# Altium schematic symbol library 4xxx.SchLib: 48 symbols
Pins are listed as number, name and electrical type; pins without a type are passive.

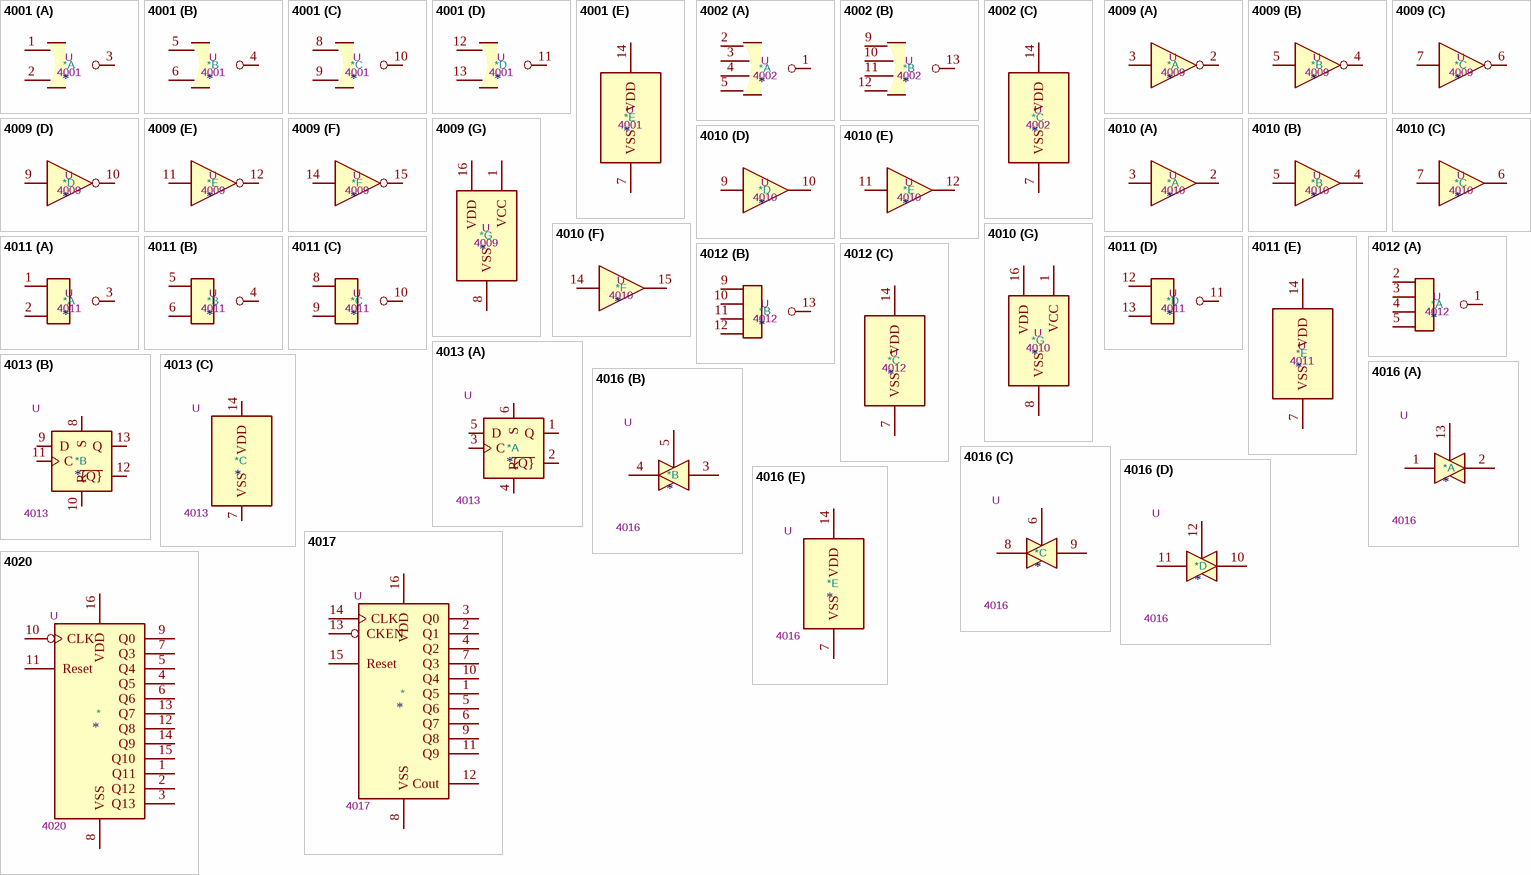
[diagram p0: symbols 4001 to 4020]

## 4001
designator *  value 4001  Reference: U
ki_keywords: CMOS Nor2; ki_description: Quad Nor 2 inputs; ki_fp_filters: DIP?14*; Datasheet: http://www.intersil.com/content/dam/Intersil/documents/cd40/cd4000bms-01bms-02bms-25bms.pdf
part A pins: 1, 2, 3
part B pins: 4, 5, 6
part C pins: 8, 9, 10
part D pins: 11, 12, 13
part E pins: 7 VSS, 14 VDD
1 alternate drawing of the same symbol

## 4002
designator *  value 4002  Reference: U
ki_keywords: CMOS Nor4; ki_description: Dual  4 input NOR gate; ki_fp_filters: DIP?14*; Datasheet: http://www.intersil.com/content/dam/Intersil/documents/cd40/cd4000bms-01bms-02bms-25bms.pdf
part A pins: 1, 2, 3, 4, 5
part B pins: 9, 10, 11, 12, 13
part C pins: 7 VSS, 14 VDD
1 alternate drawing of the same symbol

## 4009
designator *  value 4009  Reference: U
ki_keywords: CMOS INV BUFFER high sink, VCC and VDD sep. VDD>VI>VCC!; ki_description: Hex Buffer Inverter; ki_fp_filters: DIP?16*; Datasheet: http://www.sycelectronica.com.ar/semiconductores/CD4009.pdf
part A pins: 2, 3
part B pins: 4, 5
part C pins: 6, 7
part D pins: 9, 10
part E pins: 11, 12
part F pins: 14, 15
part G pins: 1 VCC, 8 VSS, 16 VDD

## 4010
designator *  value 4010  Reference: U
ki_keywords: CMOS BUFFER high sink, VCC and VDD sep. VDD>VI>VCC!; ki_description: Hex Buffer; ki_fp_filters: DIP?16*; Datasheet: http://www.ti.com/lit/ds/symlink/cd4010b-q1.pdf
part A pins: 2, 3
part B pins: 4, 5
part C pins: 6, 7
part D pins: 9, 10
part E pins: 11, 12
part F pins: 14, 15
part G pins: 1 VCC, 8 VSS, 16 VDD

## 4011
designator *  value 4011  Reference: U
ki_keywords: CMOS Nand2; ki_description: Quad Nand 2 inputs; ki_fp_filters: DIP?14*; Datasheet: http://www.intersil.com/content/dam/Intersil/documents/cd40/cd4011bms-12bms-23bms.pdf
part A pins: 1, 2, 3
part B pins: 4, 5, 6
part C pins: 8, 9, 10
part D pins: 11, 12, 13
part E pins: 7 VSS, 14 VDD
1 alternate drawing of the same symbol

## 4012
designator *  value 4012  Reference: U
ki_keywords: CMOS Nand4; ki_description: Dual 4 inputs Nand; ki_fp_filters: DIP?14*; Datasheet: http://www.intersil.com/content/dam/Intersil/documents/cd40/cd4011bms-12bms-23bms.pdf
part A pins: 1, 2, 3, 4, 5
part B pins: 9, 10, 11, 12, 13
part C pins: 7 VSS, 14 VDD
1 alternate drawing of the same symbol

## 4013
designator *  value 4013  Reference: U
ki_keywords: CMOS DFF; ki_description: Dual D  FlipFlop, Set & reset; ki_fp_filters: DIP*W7.62mm* SOIC*3.9x9.9mm*P1.27mm* TSSOP*4.4x5mm*P0.65mm*; Datasheet: http://www.onsemi.com/pub/Collateral/MC14013B-D.PDF
part A pins: 1 Q, 2 ~{{Q}}, 3 C, 4 R, 5 D, 6 S
part B pins: 8 S, 9 D, 10 R, 11 C, 12 ~{{Q}}, 13 Q
part C pins: 7 VSS, 14 VDD

## 4016
designator *  value 4016  Reference: U
ki_keywords: CMOS SWITCH; ki_description: Quad Analog Switches; ki_fp_filters: DIP?14*; Datasheet: http://www.ti.com/lit/ds/symlink/cd4016b.pdf
part A pins: 1, 2, 13
part B pins: 3, 4, 5
part C pins: 6, 8, 9
part D pins: 10, 11, 12
part E pins: 7 VSS, 14 VDD

## 4017
designator *  value 4017  Reference: U
ki_keywords: CNT CNT10; ki_description: Johnson Counter ( 10 outputs ); ki_fp_filters: DIP?16*; Datasheet: http://www.intersil.com/content/dam/Intersil/documents/cd40/cd4017bms-22bms.pdf
pins: 1 Q5, 2 Q1, 3 Q0, 4 Q2, 5 Q6, 6 Q7, 7 Q3, 8 VSS, 9 Q8, 10 Q4, 11 Q9, 12 Cout, 13 CKEN, 14 CLK, 15 Reset, 16 VDD

## 4020
designator *  value 4020  Reference: U
ki_keywords: CMOS CNT CNT14; ki_description: Binary counter 14 stages (asynchronous); ki_fp_filters: DIP?16*; Datasheet: http://www.intersil.com/content/dam/Intersil/documents/cd40/cd4020bms-24bms-40bms.pdf
pins: 1 Q11, 2 Q12, 3 Q13, 4 Q5, 5 Q4, 6 Q6, 7 Q3, 8 VSS, 9 Q0, 10 CLK, 11 Reset, 12 Q8, 13 Q7, 14 Q9, 15 Q10, 16 VDD

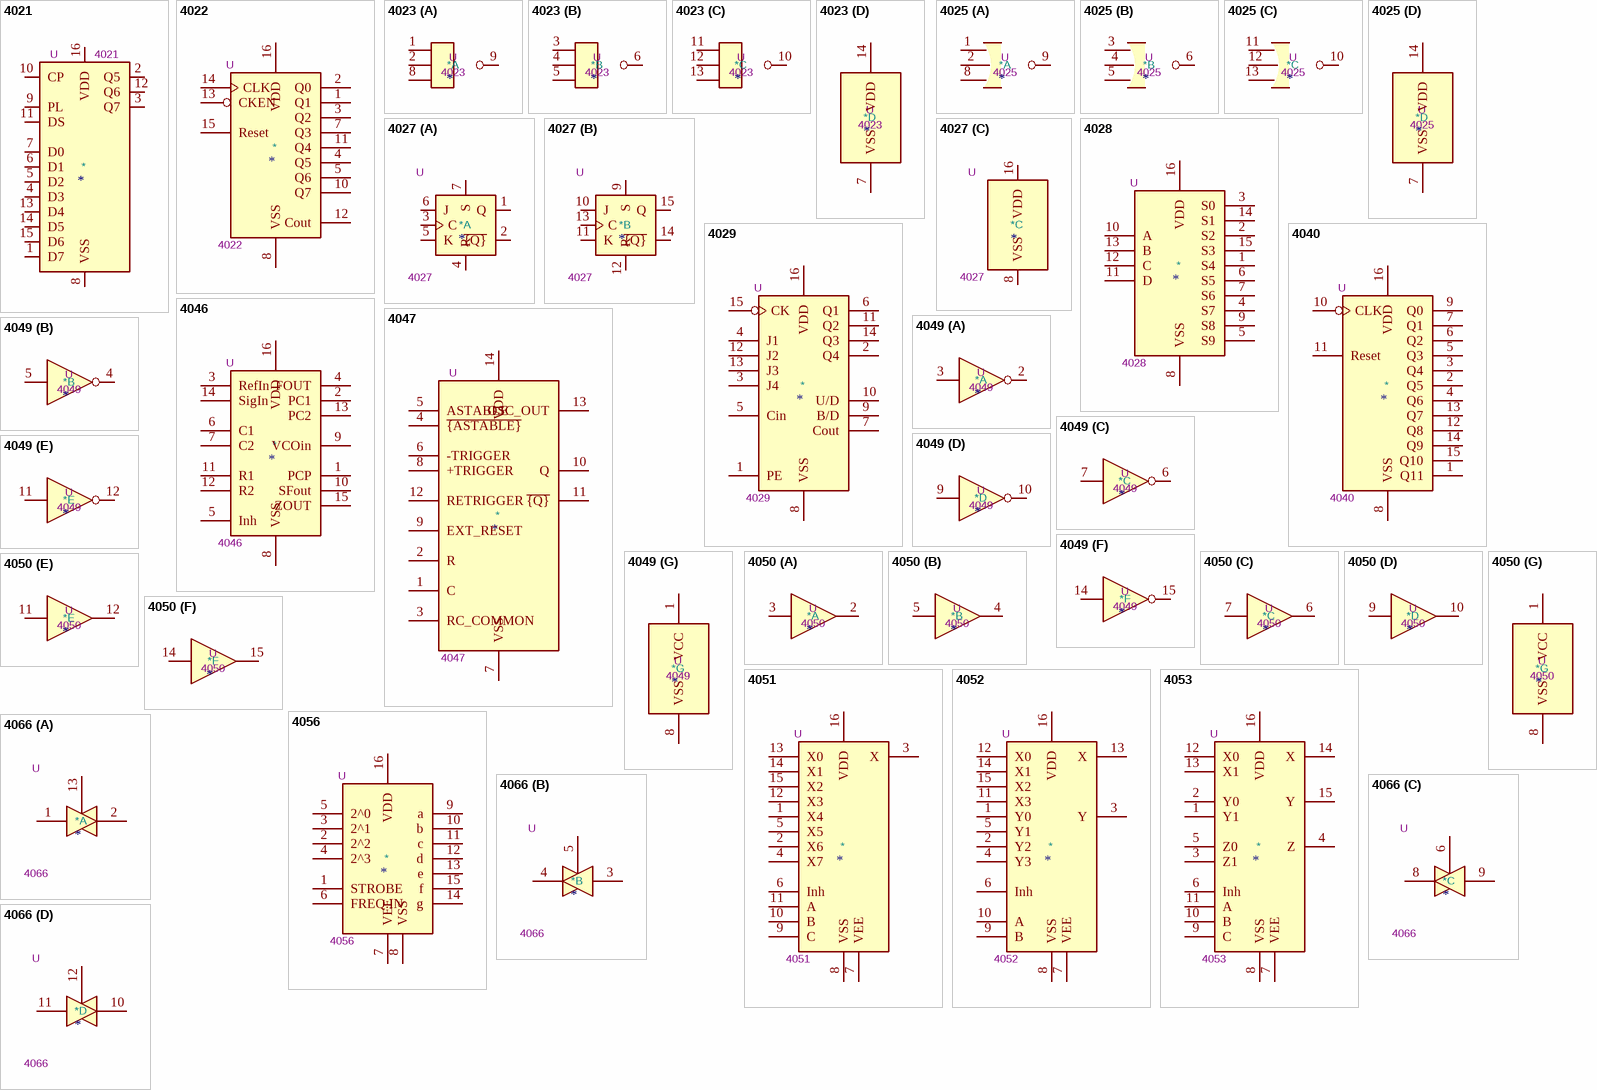
[diagram p1: symbols 4021 to 4066]

## 4021
designator *  value 4021  Reference: U
ki_keywords: shift register SR PISO; ki_description: 8-bit static shift register; ki_fp_filters: DIP*W7.62mm* SOIC*3.9x9.9mm*P1.27mm* TSSOP*4.4x5mm*P0.65mm* SOIC*5.3x10.2mm*P1.27mm*; Datasheet: https://assets.nexperia.com/documents/data-sheet/HEF4021B.pdf
pins: 1 D7, 2 Q5, 3 Q7, 4 D3, 5 D2, 6 D1, 7 D0, 8 VSS, 9 PL, 10 CP, 11 DS, 12 Q6, 13 D4, 14 D5, 15 D6, 16 VDD

## 4022
designator *  value 4022  Reference: U
ki_keywords: CMOS CNT CNT8; ki_description: Johnson Counter (8 states); ki_fp_filters: DIP?16*; Datasheet: http://www.intersil.com/content/dam/Intersil/documents/cd40/cd4017bms-22bms.pdf
pins: 1 Q1, 2 Q0, 3 Q2, 4 Q5, 5 Q6, 7 Q3, 8 VSS, 10 Q7, 11 Q4, 12 Cout, 13 CKEN, 14 CLK, 15 Reset, 16 VDD

## 4023
designator *  value 4023  Reference: U
ki_keywords: CMOS Nand3; ki_description: Triple Nand 3 inputs; ki_fp_filters: DIP?14*; Datasheet: http://www.intersil.com/content/dam/Intersil/documents/cd40/cd4011bms-12bms-23bms.pdf
part A pins: 1, 2, 8, 9
part B pins: 3, 4, 5, 6
part C pins: 10, 11, 12, 13
part D pins: 7 VSS, 14 VDD
1 alternate drawing of the same symbol

## 4025
designator *  value 4025  Reference: U
ki_keywords: CMOS Nor3; ki_description: Triple Nor 3 inputs; ki_fp_filters: DIP?14*; Datasheet: http://www.intersil.com/content/dam/Intersil/documents/cd40/cd4000bms-01bms-02bms-25bms.pdf
part A pins: 1, 2, 8, 9
part B pins: 3, 4, 5, 6
part C pins: 10, 11, 12, 13
part D pins: 7 VSS, 14 VDD
1 alternate drawing of the same symbol

## 4027
designator *  value 4027  Reference: U
ki_keywords: CMOS JK JKFF; ki_description: Dual JK FlipFlop, set & reset; ki_fp_filters: DIP*W7.62mm* SOIC*3.9x9.9mm*P1.27mm* TSSOP*4.4x5mm*P0.65mm*; Datasheet: http://www.intersil.com/content/dam/Intersil/documents/cd40/cd4027bms.pdf
part A pins: 1 Q, 2 ~{{Q}}, 3 C, 4 R, 5 K, 6 J, 7 S
part B pins: 9 S, 10 J, 11 K, 12 R, 13 C, 14 ~{{Q}}, 15 Q
part C pins: 8 VSS, 16 VDD

## 4028
designator *  value 4028  Reference: U
ki_keywords: CMOS DECOD DECOD10; ki_description: Decoder 4 to 10 lines; ki_fp_filters: DIP?16*; Datasheet: http://www.intersil.com/content/dam/Intersil/documents/cd40/cd4028bms.pdf
pins: 1 S4, 2 S2, 3 S0, 4 S7, 5 S9, 6 S5, 7 S6, 8 VSS, 9 S8, 10 A, 11 D, 12 C, 13 B, 14 S1, 15 S3, 16 VDD

## 4029
designator *  value 4029  Reference: U
ki_keywords: CMOS COUNTER; ki_description: Up/Down Counter; ki_fp_filters: DIP?16*; Datasheet: http://www.intersil.com/content/dam/Intersil/documents/cd40/cd4029bms.pdf
pins: 1 PE, 2 Q4, 3 J4, 4 J1, 5 Cin, 6 Q1, 7 Cout, 8 VSS, 9 B/D, 10 U/D, 11 Q2, 12 J2, 13 J3, 14 Q3, 15 CK, 16 VDD

## 4040
designator *  value 4040  Reference: U
ki_keywords: CMOS CNT CNT12; ki_description: Binary Counter 12 stages (Asynchronous); ki_fp_filters: DIP?16*; Datasheet: http://www.intersil.com/content/dam/Intersil/documents/cd40/cd4020bms-24bms-40bms.pdf
pins: 1 Q11, 2 Q5, 3 Q4, 4 Q6, 5 Q3, 6 Q2, 7 Q1, 8 VSS, 9 Q0, 10 CLK, 11 Reset, 12 Q8, 13 Q7, 14 Q9, 15 Q10, 16 VDD

## 4046
designator *  value 4046  Reference: U
ki_keywords: CMOS PLL; ki_description: Phase Comp & VCO; ki_fp_filters: DIP?16*; Datasheet: https://assets.nexperia.com/documents/data-sheet/HEF4046B.pdf
pins: 1 PCP, 2 PC1, 3 RefIn, 4 FOUT, 5 Inh, 6 C1, 7 C2, 8 VSS, 9 VCOin, 10 SFout, 11 R1, 12 R2, 13 PC2, 14 SigIn, 15 ZOUT, 16 VDD

## 4047
designator *  value 4047  Reference: U
ki_keywords: CMOS monostable astable multivibrator; ki_description: Monostable/Astable Multivibrator; ki_fp_filters: DIP*W7.62mm* SOIC*3.9x8.7mm*P1.27mm*; Datasheet: https://www.ti.com/lit/ds/symlink/cd4047b.pdf
pins: 1 C, 2 R, 3 RC_COMMON, 4 ~{{ASTABLE}}, 5 ASTABLE, 6 -TRIGGER, 7 VSS, 8 +TRIGGER, 9 EXT_RESET, 10 Q, 11 ~{{Q}}, 12 RETRIGGER, 13 OSC_OUT, 14 VDD

## 4049
designator *  value 4049  Reference: U
ki_keywords: CMOS BUFFER; ki_description: Hex Buffer Inverter; ki_fp_filters: DIP?16*; Datasheet: http://www.intersil.com/content/dam/intersil/documents/cd40/cd4049ubms.pdf
part A pins: 2, 3
part B pins: 4, 5
part C pins: 6, 7
part D pins: 9, 10
part E pins: 11, 12
part F pins: 14, 15
part G pins: 1 VCC, 8 VSS

## 4050
designator *  value 4050  Reference: U
ki_keywords: CMOS BUFFER; ki_description: Hex Buffer; ki_fp_filters: DIP?16*; Datasheet: http://www.intersil.com/content/dam/intersil/documents/cd40/cd4050bms.pdf
part A pins: 2, 3
part B pins: 4, 5
part C pins: 6, 7
part D pins: 9, 10
part E pins: 11, 12
part F pins: 14, 15
part G pins: 1 VCC, 8 VSS

## 4051
designator *  value 4051  Reference: U
ki_keywords: CMOS MUX MUX8; ki_description: Analog Multiplexer 8 to 1 lins; ki_fp_filters: DIP?16*; Datasheet: http://www.intersil.com/content/dam/Intersil/documents/cd40/cd4051bms-52bms-53bms.pdf
pins: 1 X4, 2 X6, 3 X, 4 X7, 5 X5, 6 Inh, 7 VEE, 8 VSS, 9 C, 10 B, 11 A, 12 X3, 13 X0, 14 X1, 15 X2, 16 VDD

## 4052
designator *  value 4052  Reference: U
ki_keywords: CMOS MUX MUX4; ki_description: Dual Analog Multiplexer 4 to 1 line; ki_fp_filters: DIP?16*; Datasheet: http://www.intersil.com/content/dam/Intersil/documents/cd40/cd4051bms-52bms-53bms.pdf
pins: 1 Y0, 2 Y2, 3 Y, 4 Y3, 5 Y1, 6 Inh, 7 VEE, 8 VSS, 9 B, 10 A, 11 X3, 12 X0, 13 X, 14 X1, 15 X2, 16 VDD

## 4053
designator *  value 4053  Reference: U
ki_keywords: CMOS MUX MUX2; ki_description: Triple analog Multiplexer 2 to 1 line; ki_fp_filters: DIP?16*; Datasheet: http://www.intersil.com/content/dam/Intersil/documents/cd40/cd4051bms-52bms-53bms.pdf
pins: 1 Y1, 2 Y0, 3 Z1, 4 Z, 5 Z0, 6 Inh, 7 VEE, 8 VSS, 9 C, 10 B, 11 A, 12 X0, 13 X1, 14 X, 15 Y, 16 VDD

## 4056
designator *  value 4056  Reference: U
ki_keywords: CMOS LCD 7-segment decoder driver; ki_description: BCD to 7-Segment Decoder/Driver, Strobed-Latch Function; ki_fp_filters: DIP*W7.62mm* SOIC*3.9x9.9mm*P1.27mm* TSSOP*4.4x5mm*P0.65mm*; Datasheet: http://www.ti.com/lit/ds/symlink/cd4056b.pdf
pins: 1 STROBE, 2 2^2, 3 2^1, 4 2^3, 5 2^0, 6 FREQ.IN, 7 VEE, 8 VSS, 9 a, 10 b, 11 c, 12 d, 13 e, 14 g, 15 f, 16 VDD

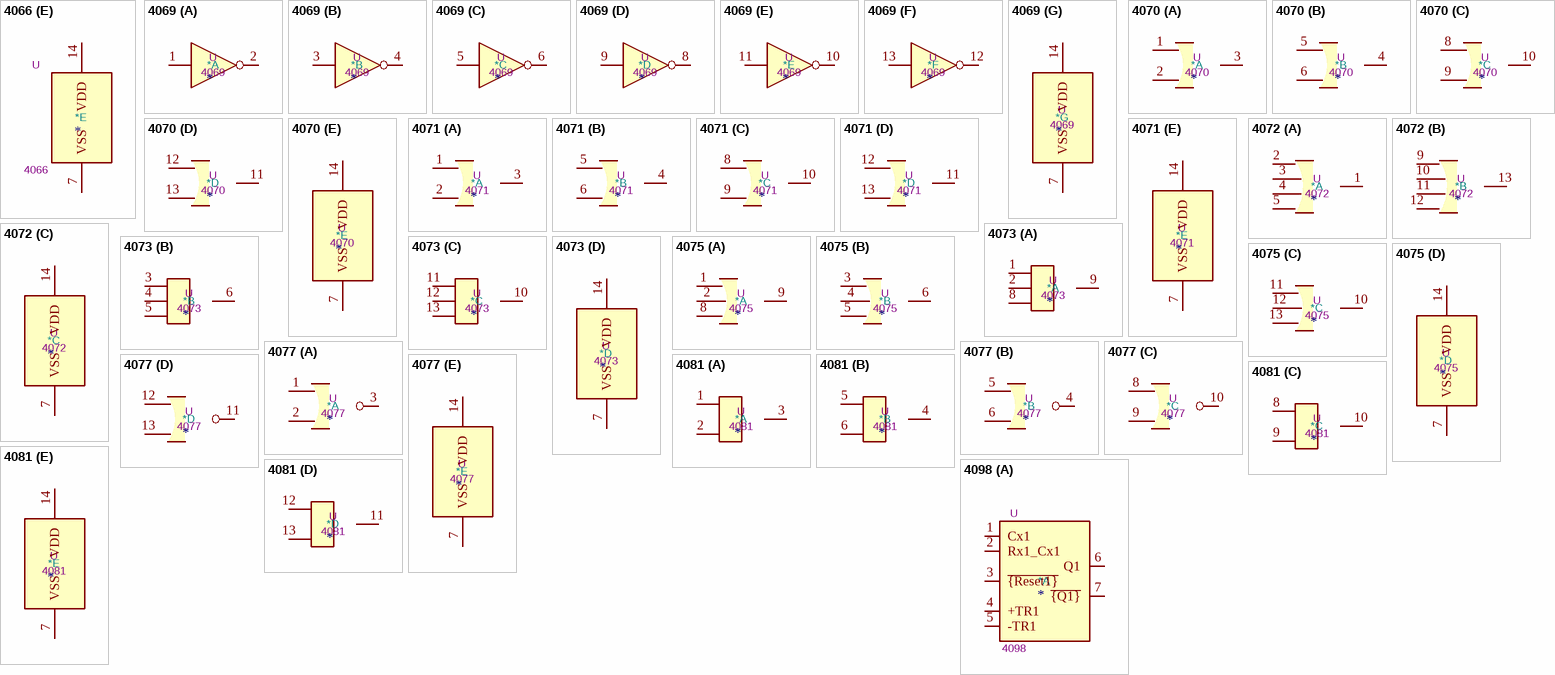
[diagram p2: symbols 4066 to 4098]

## 4066
designator *  value 4066  Reference: U
ki_keywords: CMOS SWITCH; ki_description: Quad Analog Switches; ki_fp_filters: DIP?14*; Datasheet: http://www.ti.com/lit/ds/symlink/cd4066b.pdf
part A pins: 1, 2, 13
part B pins: 3, 4, 5
part C pins: 6, 8, 9
part D pins: 10, 11, 12
part E pins: 7 VSS, 14 VDD

## 4069
designator *  value 4069  Reference: U
ki_keywords: CMOS NOT; ki_description: Hex inverter; ki_fp_filters: DIP?14*; Datasheet: http://www.intersil.com/content/dam/Intersil/documents/cd40/cd4069ubms.pdf
part A pins: 1, 2
part B pins: 3, 4
part C pins: 5, 6
part D pins: 8, 9
part E pins: 10, 11
part F pins: 12, 13
part G pins: 7 VSS, 14 VDD

## 4070
designator *  value 4070  Reference: U
ki_keywords: CMOS XOR2; ki_description: Quad Xor 2 inputs; ki_fp_filters: DIP?14*; Datasheet: http://www.intersil.com/content/dam/Intersil/documents/cd40/cd4070bms-77bms.pdf
part A pins: 1, 2, 3
part B pins: 4, 5, 6
part C pins: 8, 9, 10
part D pins: 11, 12, 13
part E pins: 7 VSS, 14 VDD

## 4071
designator *  value 4071  Reference: U
ki_keywords: CMOS OR2; ki_description: Quad Or 2 inputs; ki_fp_filters: DIP?14*; Datasheet: http://www.intersil.com/content/dam/Intersil/documents/cd40/cd4071bms-72bms-75bms.pdf
part A pins: 1, 2, 3
part B pins: 4, 5, 6
part C pins: 8, 9, 10
part D pins: 11, 12, 13
part E pins: 7 VSS, 14 VDD
1 alternate drawing of the same symbol

## 4072
designator *  value 4072  Reference: U
ki_keywords: CMOS OR4; ki_description: Dual 4 input OR gate; ki_fp_filters: DIP?14*; Datasheet: http://www.intersil.com/content/dam/Intersil/documents/cd40/cd4071bms-72bms-75bms.pdf
part A pins: 1, 2, 3, 4, 5
part B pins: 9, 10, 11, 12, 13
part C pins: 7 VSS, 14 VDD
1 alternate drawing of the same symbol

## 4073
designator *  value 4073  Reference: U
ki_keywords: CMOS And3; ki_description: Triple And 3 inputs; ki_fp_filters: DIP?14*; Datasheet: http://www.intersil.com/content/dam/Intersil/documents/cd40/cd4073bms-81bms-82bms.pdf
part A pins: 1, 2, 8, 9
part B pins: 3, 4, 5, 6
part C pins: 10, 11, 12, 13
part D pins: 7 VSS, 14 VDD
1 alternate drawing of the same symbol

## 4075
designator *  value 4075  Reference: U
ki_keywords: CMOS Or3; ki_description: Triple Or 3 inputs; ki_fp_filters: DIP?14*; Datasheet: http://www.intersil.com/content/dam/Intersil/documents/cd40/cd4071bms-72bms-75bms.pdf
part A pins: 1, 2, 8, 9
part B pins: 3, 4, 5, 6
part C pins: 10, 11, 12, 13
part D pins: 7 VSS, 14 VDD
1 alternate drawing of the same symbol

## 4077
designator *  value 4077  Reference: U
ki_keywords: CMOS XOR XNOR XNOR2; ki_description: Quad Xnor 2 inputs; ki_fp_filters: DIP?14*; Datasheet: http://www.intersil.com/content/dam/Intersil/documents/cd40/cd4076bms.pdf
part A pins: 1, 2, 3
part B pins: 4, 5, 6
part C pins: 8, 9, 10
part D pins: 11, 12, 13
part E pins: 7 VSS, 14 VDD

## 4081
designator *  value 4081  Reference: U
ki_keywords: CMOS And2; ki_description: Quad And 2 inputs; ki_fp_filters: DIP?14*; Datasheet: http://www.intersil.com/content/dam/Intersil/documents/cd40/cd4073bms-81bms-82bms.pdf
part A pins: 1, 2, 3
part B pins: 4, 5, 6
part C pins: 8, 9, 10
part D pins: 11, 12, 13
part E pins: 7 VSS, 14 VDD
1 alternate drawing of the same symbol

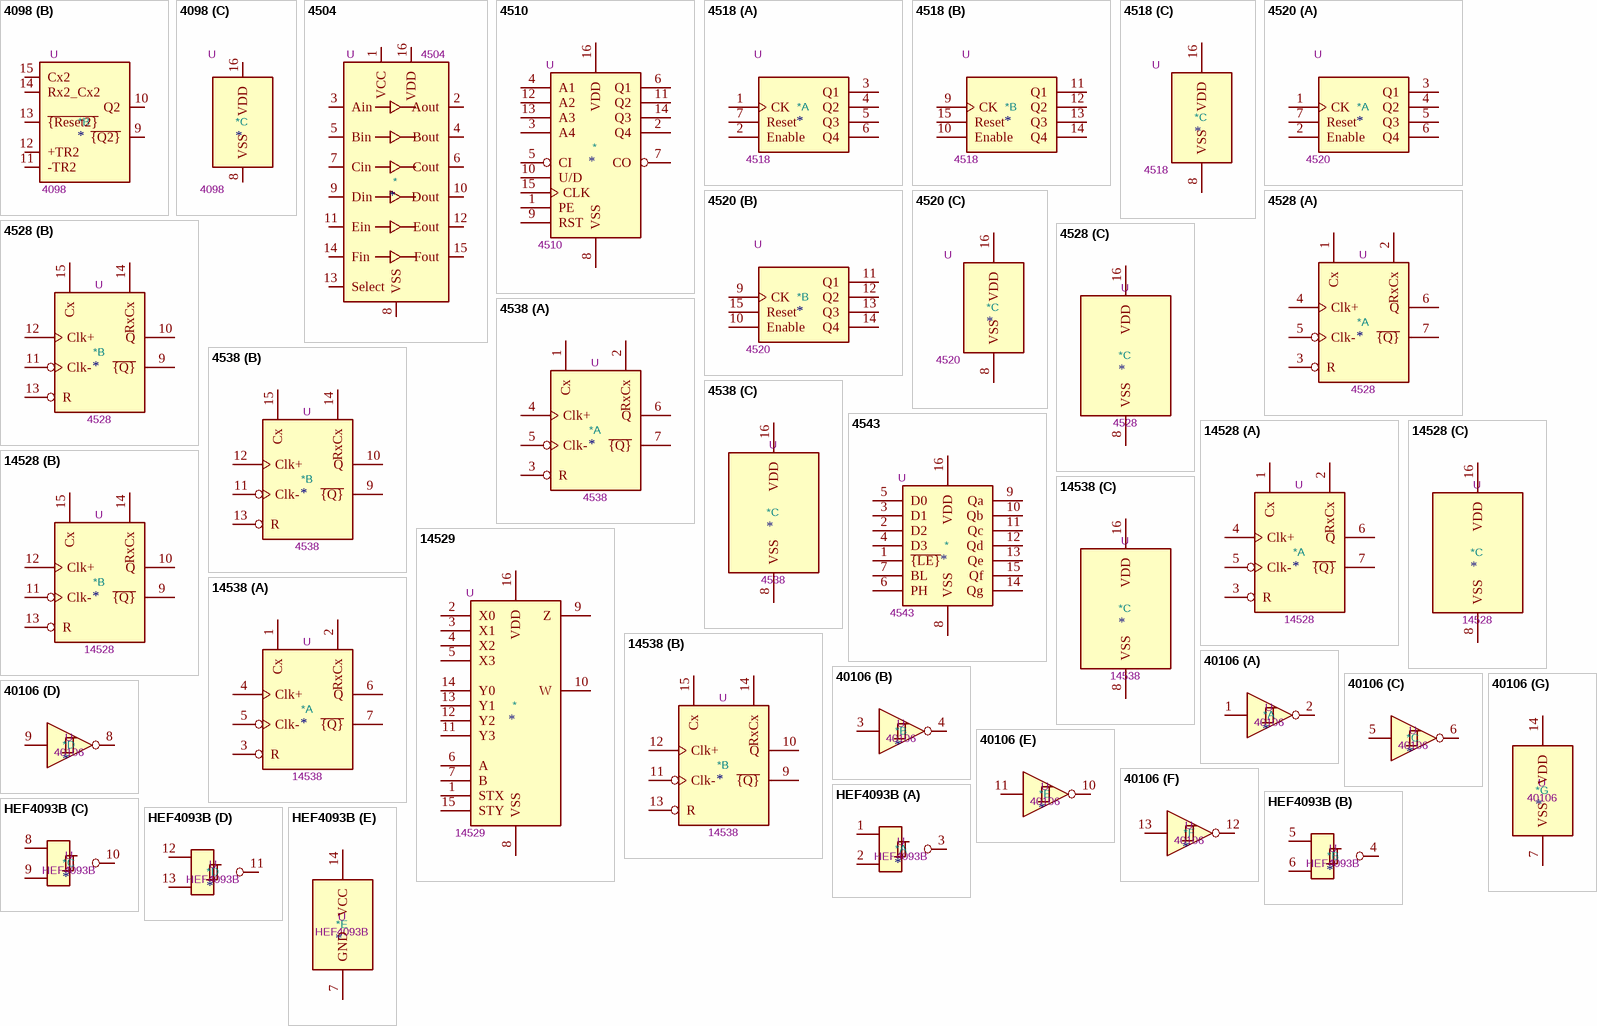
[diagram p3: symbols 4098 to HEF4093B]

## 4098
designator *  value 4098  Reference: U
ki_keywords: CMOS monostable multivibrator; ki_description: Dual Monostable Multivibrator; ki_fp_filters: DIP*W7.62mm* SOIC*3.9x9.9mm*P1.27mm* TSSOP*4.4x5mm*P0.65mm*; Datasheet: http://www.ti.com/lit/ds/symlink/cd4098b.pdf
part A pins: 1 Cx1, 2 Rx1_Cx1, 3 ~{{Reset1}}, 4 +TR1, 5 -TR1, 6 Q1, 7 ~{{Q1}}
part B pins: 9 ~{{Q2}}, 10 Q2, 11 -TR2, 12 +TR2, 13 ~{{Reset2}}, 14 Rx2_Cx2, 15 Cx2
part C pins: 8 VSS, 16 VDD

## 4504
designator *  value 4504  Reference: U
ki_keywords: Level-shifter; ki_description: CMOS Hex Voltage-Level Shifter for TTL-to-CMOS or CMOS-to-CMOS, DIP-16/SOIC-16/TSSOP-16; ki_fp_filters: DIP*W7.62mm* SOIC*3.9x9.9mm*P1.27mm* TSSOP*4.4x5mm*P0.65mm*; Datasheet: http://www.ti.com/lit/ds/symlink/cd4504b.pdf
pins: 1 VCC, 2 Aout, 3 Ain, 4 Bout, 5 Bin, 6 Cout, 7 Cin, 8 VSS, 9 Din, 10 Dout, 11 Ein, 12 Eout, 13 Select, 14 Fin, 15 Fout, 16 VDD

## 4510
designator *  value 4510  Reference: U
ki_keywords: CMOS CNT CNT4; ki_description: 4 bits programmable counter; ki_fp_filters: DIP?16*; Datasheet: http://pdf.datasheetcatalog.com/datasheets/150/109581_DS.pdf
pins: 1 PE, 2 Q4, 3 A4, 4 A1, 5 CI, 6 Q1, 7 CO, 8 VSS, 9 RST, 10 U/D, 11 Q2, 12 A2, 13 A3, 14 Q3, 15 CLK, 16 VDD

## 4518
designator *  value 4518  Reference: U
ki_keywords: CMOS; ki_description: Dual BCD Up-Counter; ki_fp_filters: DIP?16*; Datasheet: http://www.intersil.com/content/dam/Intersil/documents/cd45/cd4518bms-20bms.pdf
part A pins: 1 CK, 2 Enable, 3 Q1, 4 Q2, 5 Q3, 6 Q4, 7 Reset
part B pins: 9 CK, 10 Enable, 11 Q1, 12 Q2, 13 Q3, 14 Q4, 15 Reset
part C pins: 8 VSS, 16 VDD

## 4520
designator *  value 4520  Reference: U
ki_keywords: CMOS; ki_description: Dual Binary Up-Counter; ki_fp_filters: DIP?16*; Datasheet: http://www.intersil.com/content/dam/Intersil/documents/cd45/cd4518bms-20bms.pdf
part A pins: 1 CK, 2 Enable, 3 Q1, 4 Q2, 5 Q3, 6 Q4, 7 Reset
part B pins: 9 CK, 10 Enable, 11 Q1, 12 Q2, 13 Q3, 14 Q4, 15 Reset
part C pins: 8 VSS, 16 VDD

## 4528
designator *  value 4528  Reference: U
ki_keywords: CMOS; ki_description: Monostable; ki_fp_filters: DIP?16*; Datasheet: http://datasheet.octopart.com/CD4528BCN-Fairchild-datasheet-143503.pdf
part A pins: 1 Cx, 2 RxCx, 3 R, 4 Clk+, 5 Clk-, 6 Q, 7 ~{{Q}}
part B pins: 9 ~{{Q}}, 10 Q, 11 Clk-, 12 Clk+, 13 R, 14 RxCx, 15 Cx
part C pins: 8 VSS, 16 VDD

## 4538
designator *  value 4538  Reference: U
ki_keywords: CMOS; ki_description: Monostable; ki_fp_filters: DIP?16*; Datasheet: https://assets.nexperia.com/documents/data-sheet/HEF4538B.pdf
part A pins: 1 Cx, 2 RxCx, 3 R, 4 Clk+, 5 Clk-, 6 Q, 7 ~{{Q}}
part B pins: 9 ~{{Q}}, 10 Q, 11 Clk-, 12 Clk+, 13 R, 14 RxCx, 15 Cx
part C pins: 8 VSS, 16 VDD

## 4543
designator *  value 4543  Reference: U
ki_keywords: CMOS 7-segment latch decoder driver; ki_description: BCD to 7-segment latch/decoder/driver; ki_fp_filters: DIP*W7.62mm* SOIC*3.9x9.9mm*P1.27mm* TSSOP*4.4x5mm*P0.65mm*; Datasheet: http://www.ti.com/lit/ds/symlink/cd4543b.pdf
pins: 1 ~{{LE}}, 2 D2, 3 D1, 4 D3, 5 D0, 6 PH, 7 BL, 8 VSS, 9 Qa, 10 Qb, 11 Qc, 12 Qd, 13 Qe, 14 Qg, 15 Qf, 16 VDD

## 14528
designator *  value 14528  Reference: U
ki_keywords: CMOS; ki_description: Monostable; ki_fp_filters: DIP?16*; Datasheet: https://www.onsemi.com/pub/Collateral/MC14528B-D.PDF
part A pins: 1 Cx, 2 RxCx, 3 R, 4 Clk+, 5 Clk-, 6 Q, 7 ~{{Q}}
part B pins: 9 ~{{Q}}, 10 Q, 11 Clk-, 12 Clk+, 13 R, 14 RxCx, 15 Cx
part C pins: 8 VSS, 16 VDD

## 14529
designator *  value 14529  Reference: U
ki_keywords: CMOS MUX MUX4; ki_description: Dual 4 to 1 Multiplexer; ki_fp_filters: DIP?16*; Datasheet: http://www.alldatasheet.com/datasheet-pdf/pdf/97272/HITACHI/HD14529B.html
pins: 1 STX, 2 X0, 3 X1, 4 X2, 5 X3, 6 A, 7 B, 8 VSS, 9 Z, 10 W, 11 Y3, 12 Y2, 13 Y1, 14 Y0, 15 STY, 16 VDD

## 14538
designator *  value 14538  Reference: U
ki_keywords: CMOS; ki_description: Monostable; ki_fp_filters: DIP?16*; Datasheet: https://www.onsemi.com/pub/Collateral/MC14538B-D.PDF
part A pins: 1 Cx, 2 RxCx, 3 R, 4 Clk+, 5 Clk-, 6 Q, 7 ~{{Q}}
part B pins: 9 ~{{Q}}, 10 Q, 11 Clk-, 12 Clk+, 13 R, 14 RxCx, 15 Cx
part C pins: 8 VSS, 16 VDD

## 40106
designator *  value 40106  Reference: U
ki_keywords: CMOS; ki_description: Hex Schmitt trigger inverter; ki_fp_filters: DIP?14*; Datasheet: https://assets.nexperia.com/documents/data-sheet/HEF40106B.pdf
part A pins: 1, 2
part B pins: 3, 4
part C pins: 5, 6
part D pins: 8, 9
part E pins: 10, 11
part F pins: 12, 13
part G pins: 7 VSS, 14 VDD

## HEF4093B
designator *  value HEF4093B  Reference: U
ki_keywords: NAND2; ki_description: Quad 2-Input NAND Schmitt Trigger, SOIC-14; ki_fp_filters: SOIC*3.9x8.7mm*P1.27mm*; Datasheet: https://assets.nexperia.com/documents/data-sheet/HEF4093B.pdf
part A pins: 1, 2, 3
part B pins: 4, 5, 6
part C pins: 8, 9, 10
part D pins: 11, 12, 13
part E pins: 7 GND, 14 VCC
1 alternate drawing of the same symbol